# Altium footprint library SOT23.PcbLib: 1 footprints
Each footprint in its own frame and in the unit in brackets; x right, y up, seen from the top. Pads: shape width x height; smd on the part's side, far side on the other; paste and mask are expansions set on the pad; w line width, h text height; cw(c..) or ccw(c..) is an arc to the next point about the centre after c.
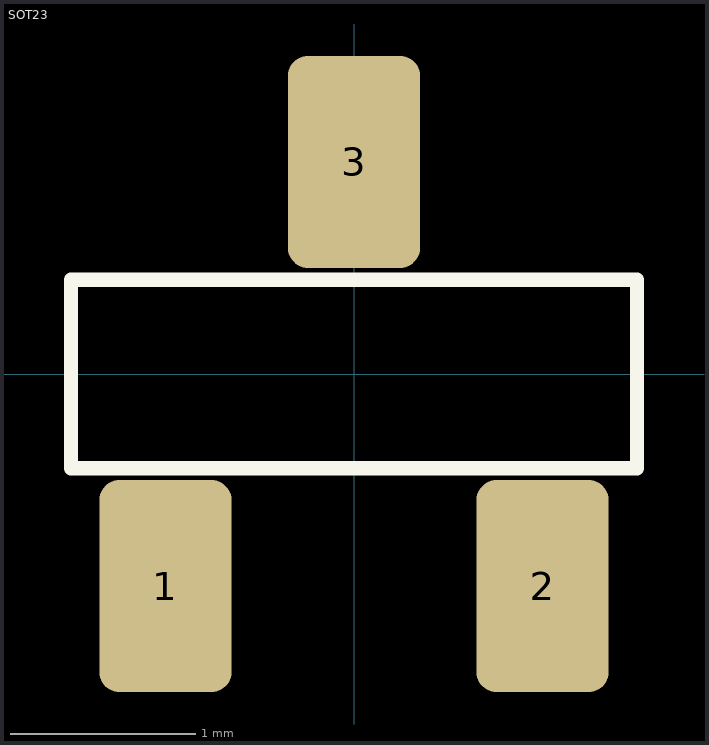
[diagram p0: the footprint, top view; thin cyan lines are the x and y axes]

## SOT23 [mil]
pads (3):
  rrect30% 28x45 smd: 1(-40,-45) 2(40,-45) 3(0,45)
Top Overlay:
  lines w3: -60,-20 60,-20 60,20 -60,20 -60,-20